# Altium footprint library Miscellaneous Modules.PcbLib: 77 footprints (part 1 of 5)
Each footprint in its own frame and in the unit in brackets; x right, y up, seen from the top. Pads: shape width x height; smd on the part's side, far side on the other; paste and mask are expansions set on the pad; w line width, h text height; cw(c..) or ccw(c..) is an arc to the next point about the centre after c.
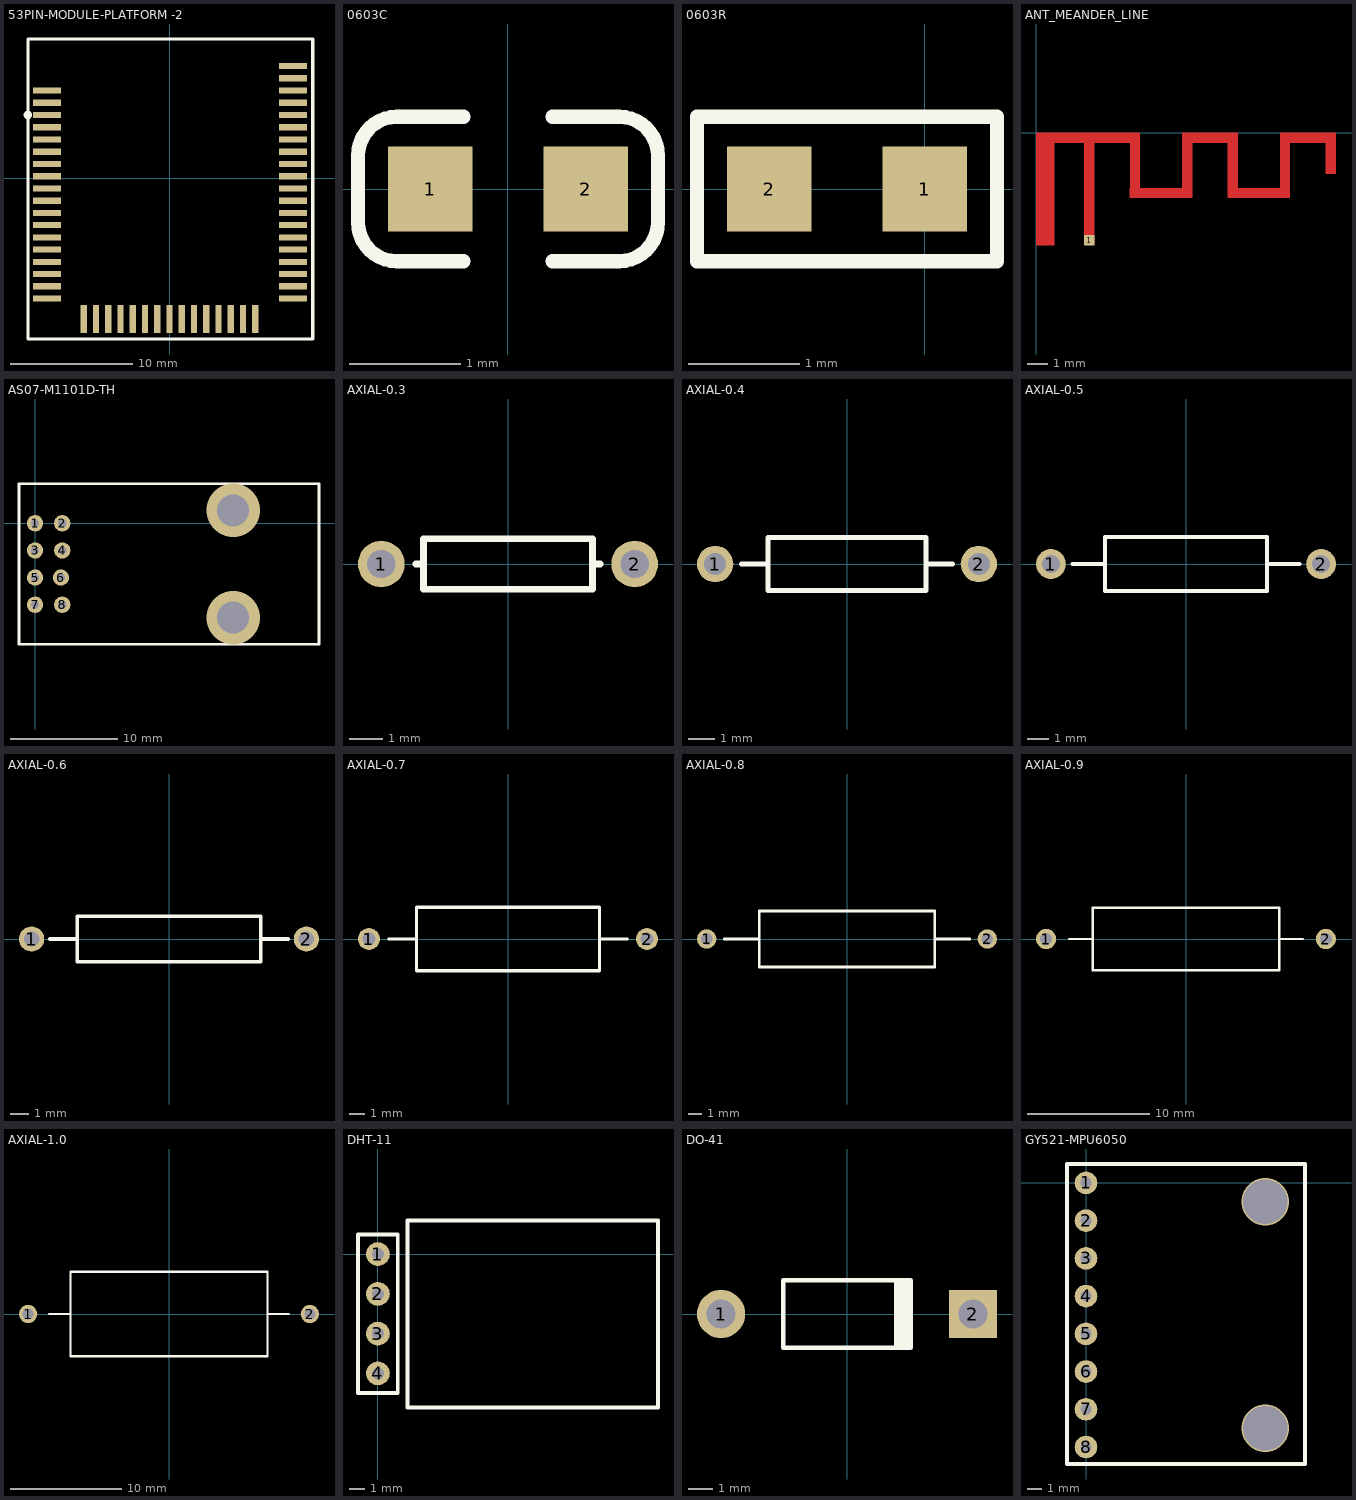
[diagram p0: the footprints below, top view; thin cyan lines are the x and y axes]

## 53PIN-MODULE-PLATFORM -2 [mil]
height 100
pads (53):
  rect 90x20 smd: 1(-393.7,202.76) 2(-393.7,163.39) 3(-393.7,124.02) 4(-393.7,84.65) 5(-393.7,45.28) 6(-393.7,5.91) 7(-393.7,-33.46) 8(-393.7,-72.83) 9(-393.7,-112.2) 10(-393.7,-151.57) 11(-393.7,-190.94) 12(-393.7,-230.31) 13(-393.7,-269.69) 14(-393.7,-309.06) 15(-393.7,-348.43) 16(-393.7,-387.8) 32(397.64,-387.8) 33(397.64,-348.43) 34(397.64,-309.06) 35(397.64,-269.69) 36(397.64,-230.31) 37(397.64,-190.94) 38(397.64,-151.57) 39(397.64,-112.2) 40(397.64,-72.83) 41(397.64,-33.46) 42(397.64,5.91) 43(397.64,45.28) 44(397.64,84.65) 45(397.64,124.02) 46(397.64,163.39) 47(397.64,202.76) 48(397.64,242.13) 49(397.64,281.5) 50(397.64,320.87) 51(397.64,360.24) 52(-393.7,281.5) 53(-393.7,242.13)
  rect 20x90 smd: 17(-275.59,-453.74) 18(-236.22,-453.74) 19(-196.85,-453.74) 20(-157.48,-453.74) 21(-118.11,-453.74) 22(-78.74,-453.74) 23(-39.37,-453.74) 24(0,-453.74) 25(39.37,-453.74) 26(78.74,-453.74) 27(118.11,-453.74) 28(157.48,-453.74) 29(196.85,-453.74) 30(236.22,-453.74) 31(275.59,-453.74)
Top Overlay:
  circle w10: c-455.71,202.76 r8.47
  lines w10: -454.73,447 460.63,447 460.63,-517.72 -454.72,-517.72 -454.73,447

## 0603C [mil]
pads (2):
  rect 30x30 smd: 1(-27.56,0) 2(27.56,0)
Top Overlay:
  lines w5: -15.75,-25.59 -39.37,-25.59 cw(c-39.37,-11.81) -53.15,-11.81 -53.15,11.81 cw(c-39.37,11.81) -39.37,25.59 -15.75,25.59 ; 15.75,-25.59 39.37,-25.59 ccw(c39.37,-11.81) 53.15,-11.81 53.15,11.81 ccw(c39.37,11.81) 39.37,25.59 15.75,25.59

## 0603R [mil]
pads (2):
  rect 30x30 smd: 1(0,0) 2(-55.12,0)
Top Overlay:
  lines w5: -80.71,-25.59 25.59,-25.59 25.59,25.59 -80.71,25.59 -80.71,-25.59

## ANT_MEANDER_LINE [mm]
pads (1):
  rect 0.5x0.5 smd: 1(2.55,-5.15)
Top Layer:
  rectangle: 13.9,-1.97 14.4,0
  rectangle: 11.702,-0.499 14.402,0.001
  rectangle: 11.702,-3.139 12.202,0.001
  rectangle: 9.2,-3.14 12.2,-2.64
  rectangle: 9.202,-3.139 9.702,0.001
  rectangle: 7.002,-0.499 9.702,0.001
  rectangle: 7.002,-3.139 7.502,0.001
  rectangle: 4.5,-3.14 7.5,-2.64
  rectangle: 4.502,-3.139 5.002,0.001
  rectangle: 2.302,-5.399 2.802,0.001
  rectangle: 0.002,-0.499 5.002,0.001
  rectangle: 0,-5.4 0.9,0

## AS07-M1101D-TH [mil] "AS07-M1101D-TH Footprint"
height 100
pads (8):
  round 60 hole 30: 1(0,0) 2(100,0) 3(0,-100) 4(100,-100) 5(0,-200) 6(95,-200) 7(0,-300) 8(100,-300)
via 728.35,46.85 diameter 196.85 hole 118.11
via 728.35,-346.85 diameter 196.85 hole 118.11
Top Overlay:
  lines w10: -59.06,-445.28 -59.06,145.28 1044.72,145.28 1044.72,-445.28 -59.06,-445.28

## AXIAL-0.3 [mm] "Axial Device, Thru-Hole; 2 Leads; 0.3 in Pin Spacing"
height 1.524
pads (2):
  round 1.4 hole 0.85: 1(-3.81,0) 2(3.81,0)
Top Overlay:
  lines w0.2: -2.769,0 -2.54,0 ; 2.769,0 2.54,0 ; 2.54,0 2.54,0.762 -2.54,0.762 -2.54,-0.762 2.54,-0.762 2.54,0

## AXIAL-0.4 [mm] "Axial Device, Thru-Hole; 2 Leads; 0.4 in Pin Spacing"
height 2.032
pads (2):
  round 1.4 hole 0.85: 1(-5.08,0) 2(5.08,0)
Top Overlay:
  lines w0.2: -4.064,0 -3.048,0 ; 3.048,0 4.064,0 ; -3.048,-1.016 3.048,-1.016 3.048,1.016 -3.048,1.016 -3.048,-1.016

## AXIAL-0.5 [mm] "Axial Device, Thru-Hole; 2 Leads; 0.5 in Pin Spacing"
height 2.54
pads (2):
  round 1.4 hole 0.85: 1(-6.35,0) 2(6.35,0)
Top Overlay:
  lines w0.2: -5.334,0 -3.81,0 ; 3.81,0 5.334,0 ; -3.81,-1.27 -3.81,1.27 3.81,1.27 3.81,-1.27 -3.81,-1.27

## AXIAL-0.6 [mm] "Axial Device, Thru-Hole; 2 Leads; 0.6 in Pin Spacing"
height 2.54
pads (2):
  round 1.4 hole 0.85: 1(-7.62,0) 2(7.62,0)
Top Overlay:
  lines w0.2: -6.604,0 -5.08,0 ; 5.08,0 6.604,0 ; -5.08,-1.27 -5.08,1.27 5.08,1.27 5.08,-1.27 -5.08,-1.27

## AXIAL-0.7 [mm] "Axial Device, Thru-Hole; 2 Leads; 0.7 in Pin Spacing"
height 4.064
pads (2):
  round 1.4 hole 0.85: 1(-8.89,0) 2(8.89,0)
Top Overlay:
  lines w0.2: -7.62,0 -5.842,0 ; 5.842,0 7.62,0 ; -5.842,-2.032 -5.842,2.032 5.842,2.032 5.842,-2.032 -5.842,-2.032

## AXIAL-0.8 [mm] "Axial Device, Thru-Hole; 2 Leads; 0.8 in Pin Spacing"
height 4.064
pads (2):
  round 1.4 hole 0.85: 1(-10.16,0) 2(10.16,0)
Top Overlay:
  lines w0.2: -8.89,0 -6.35,0 ; 6.35,0 8.89,0 ; -6.35,-2.032 -6.35,2.032 6.35,2.032 6.35,-2.032 -6.35,-2.032

## AXIAL-0.9 [mm] "Axial Device, Thru-Hole; 2 Leads; 0.9 in Pin Spacing"
height 5.08
pads (2):
  round 1.65 hole 1: 1(-11.43,0) 2(11.43,0)
Top Overlay:
  lines w0.2: -9.525,0 -7.62,0 ; 7.62,0 9.525,0 ; -7.62,-2.54 -7.62,2.54 7.62,2.54 7.62,-2.54 -7.62,-2.54

## AXIAL-1.0 [mm] "Axial Device, Thru-Hole; 2 Leads; 1.0 in Pin Spacing"
height 7.62
pads (2):
  round 1.65 hole 1: 1(-12.7,0) 2(12.7,0)
Top Overlay:
  lines w0.2: -10.795,0 -8.89,0 ; 8.89,0 10.795,0 ; -8.89,-3.81 -8.89,3.81 8.89,3.81 8.89,-3.81 -8.89,-3.81

## DHT-11 [mil] "DHT11"
pads (4):
  round 60 hole 30: 1(0,0) 2(0,-100) 3(0,-200) 4(0,-300)
Top Overlay:
  lines w10: -50,-350 -50,50 50,50 50,-350 -50,-350 ; 75,-386.22 75,85 704.92,85 704.92,-386.22 75,-386.22

## DO-41 [mm] "Diode, Axial; Body 5.2 x 2.7 mm (LxDia. max), Lead Dia. 0.86 mm (max)"
height 2.8
pads (2):
  round 2 hole 1.2: 1(-5.23,0)
  rect 2x2 hole 1.2: 2(5.23,0)
Top Overlay:
  rectangle: 1.95,-1.4 2.75,1.4
  lines w0.2: 2.65,-1.4 -2.65,-1.4 -2.65,1.4 2.65,1.4

## GY521-MPU6050 [mil] "MPU6050 Module"
pads (8):
  round 60 hole 30: 1(0,0) 2(0,-100) 3(0,-200) 4(0,-300) 5(0,-400) 6(0,-500) 7(0,-600) 8(0,-700)
via 475,-650 diameter 125.98 hole 118.11
via 475,-50 diameter 125.98 hole 118.11
Top Overlay:
  lines w10: -50,-745 -50,50 580,50 580,-745 -50,-745